# Altium schematic symbol library Resistors.SchLib: 3 symbols
Pins are listed as number, name and electrical type; pins without a type are passive.

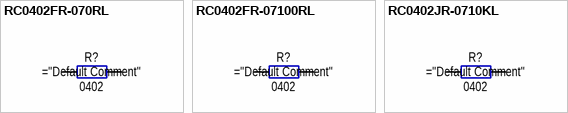
[diagram p0: symbols RC0402FR-070RL to RC0402JR-0710KL]

## RC0402FR-070RL
designator R?  Case: 0402
RES 0 OHM JUMPER 1/16W 0402; Manufacturer: YAGEO; Part Number: RC0402FR-070RL; Default Comment: 0R; Rated Voltage: * V; Rated Current: * A; Value: 0R; Other: 0 Ohms Jumper 0.063W, 1/16W Chip Resistor 0402 (1005 Metric) Moisture Resistant Thick Film; Operating Temperature: -55 °C to +155 °C; Type: resistor; HelpURL: https://www.digikey.com/en/products/detail/yageo/RC0402FR-070RL/2827570; Power Dissipation: 1/16 W; Rated Power: 1/16 W; Tolerance: jumper; Summary: ="Type"+" "+"Part Number"+" "+"Manufacturer"+" "+"Value"+" "+"Tolerance"+" "+"Operating Temperature"+" "+"Case"+" "+"Power Dissipation"+" "+"Rated Current"+" "+"Rated Power"+" "+"Rated Voltage"+" "+"Other"; Assembly: *
footprint 0402 (IPC 0402 High density)
pins: 1, 2

## RC0402FR-07100RL
designator R?  Case: 0402
RES 100 OHM 1% 1/16W 0402; Manufacturer: YAGEO; Part Number: RC0402FR-07100RL; Default Comment: 100R; Rated Voltage: * V; Rated Current: * A; Value: 100R; Other: 100 Ohms ±1% 0.063W, 1/16W Chip Resistor 0402 (1005 Metric) Moisture Resistant Thick Film; Operating Temperature: -55 °C to +155 °C; Type: resistor; HelpURL: https://www.digikey.com/en/products/detail/yageo/RC0402FR-07100RL/726527; Power Dissipation: 1/16 W; Rated Power: 1/16 W; Tolerance: 1 %; Summary: ="Type"+" "+"Part Number"+" "+"Manufacturer"+" "+"Value"+" "+"Tolerance"+" "+"Operating Temperature"+" "+"Case"+" "+"Power Dissipation"+" "+"Rated Current"+" "+"Rated Power"+" "+"Rated Voltage"+" "+"Other"; Assembly: *
footprint 0402 (IPC 0402 High density)
pins: 1, 2

## RC0402JR-0710KL
designator R?  Case: 0402
RES 10K OHM 5% 1/16W 0402; Manufacturer: YAGEO; Part Number: RC0402JR-0710KL; Rated Voltage: * V; Rated Current: * A; Other: 10 kOhms ±5% 0.063W, 1/16W Chip Resistor 0402 (1005 Metric) Moisture Resistant Thick Film; Operating Temperature: -55 °C to +155 °C; Type: resistor; HelpURL: https://www.digikey.com/en/products/detail/yageo/RC0402JR-0710KL/726418; Default Comment: 10k; Power Dissipation: 1/16 W; Rated Power: 1/16 W; Tolerance: 5 %; Value: 10k; Summary: ="Type"+" "+"Part Number"+" "+"Manufacturer"+" "+"Value"+" "+"Tolerance"+" "+"Operating Temperature"+" "+"Case"+" "+"Power Dissipation"+" "+"Rated Current"+" "+"Rated Power"+" "+"Rated Voltage"+" "+"Other"; Assembly: *
footprint 0402 (IPC 0402 High density)
pins: 1, 2